# Altium schematic symbol library kmilo17pet-NSC_MiscPower.SchLib: 1552 symbols (part 2 of 43)
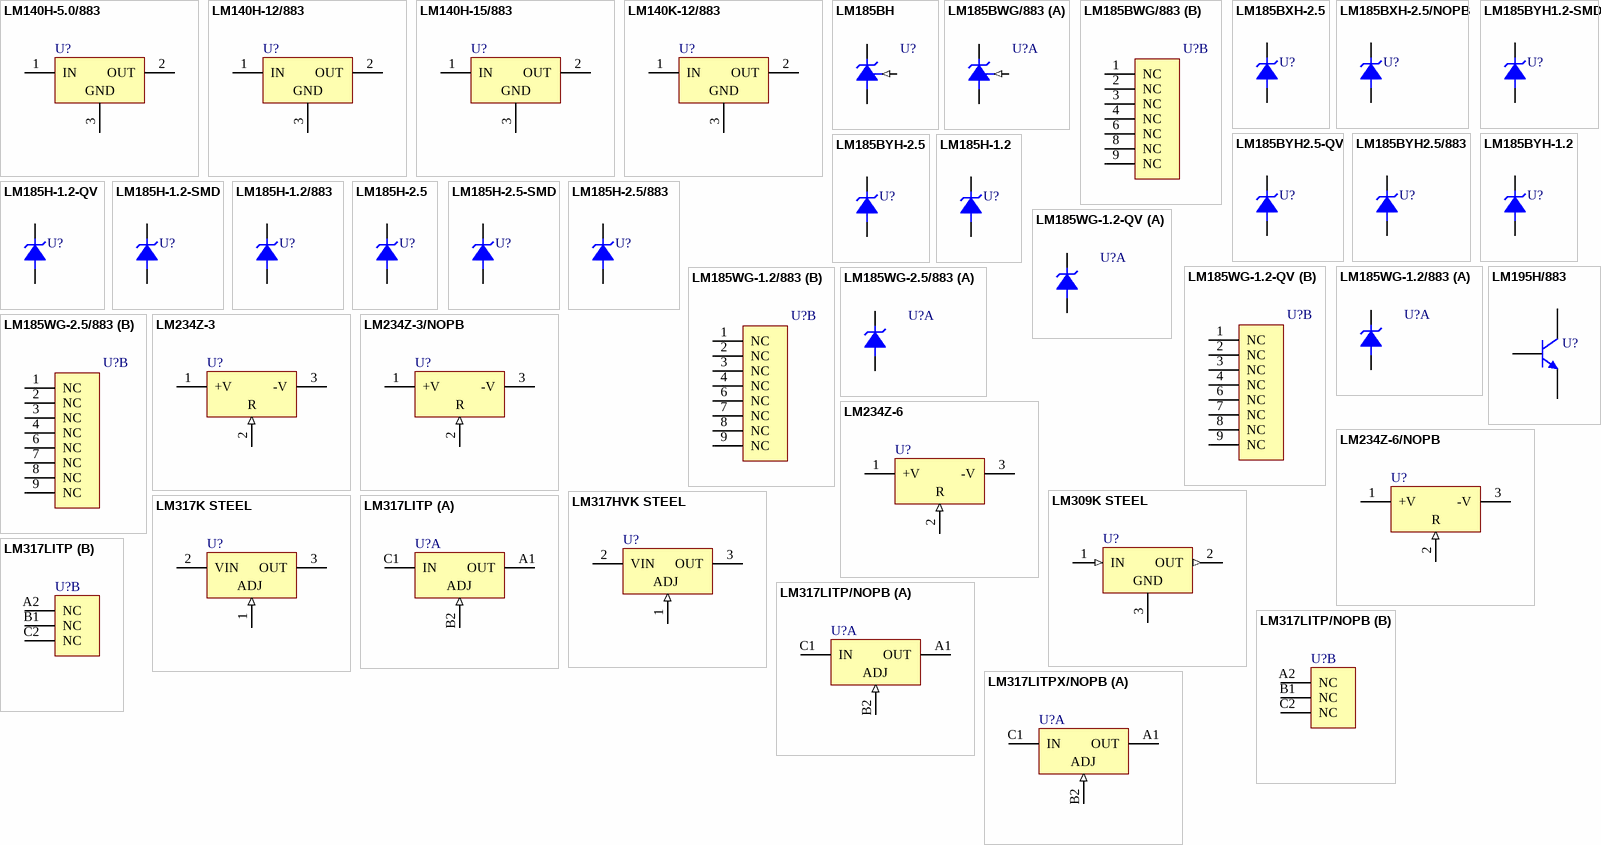
[diagram p58: symbols LM140H-5.0/883 to LM317LITPX/NOPB]

## LM185BYH-2.5
designator U?
Micropower Voltage Reference Diode, 2-pin TO-46; PartNumber: LM185BYH-2.5; Manufacturer: National Semiconductor; PackageTopMarking: NSXYTTE# LM185BYH2.5; PowerWise: N; CompType: MiscPower; High-Reliability: Y; DatasheetVersion: Jan-2008; PackageVersion: revF, Apr-2002; PackageReference: H02A; PackageDescription: Metal Can, TO-46, 2 Lead, .100in Dia, P.C.; RoHS: N; PinCount: 2; Code_JEDEC: TO-46; ComponentLink1Description: Manufacturer URL; ComponentLink1URL: http://www.national.com/; ComponentLink2Description: LM185-2.5 Datasheet; ComponentLink2URL: http://www.national.com/ds/LM/LM185-2.5.pdf; ComponentLink3Description: LM185-2.5 Web Page; ComponentLink3URL: http://www.national.com/pf/LM/LM185-2.5.html; ComponentLink4Description: H02A Package Page; ComponentLink4URL: http://www.national.com/packaging/folders/h02a.html
footprint H02A (Can; 2 Leads; Pin Circle Dia. 2.54 mm; Lead Dia. 0.48 mm (max))
pins: 1 V+ (power), 2 V- (power)

## LM185H-1.2
designator U?
Micropower Voltage Reference Diode, 2-pin TO-46; PartNumber: LM185H-1.2; Manufacturer: National Semiconductor; PackageTopMarking: NSXYTTE# LM185H1.2; PowerWise: N; CompType: MiscPower; High-Reliability: Y; DatasheetVersion: Jan-2008; PackageVersion: revF, Apr-2002; PackageReference: H02A; PackageDescription: Metal Can, TO-46, 2 Lead, .100in Dia, P.C.; RoHS: N; PinCount: 2; Code_JEDEC: TO-46; ComponentLink1Description: Manufacturer URL; ComponentLink1URL: http://www.national.com/; ComponentLink2Description: LM185-1.2 Datasheet; ComponentLink2URL: http://www.national.com/ds/LM/LM185-1.2.pdf; ComponentLink3Description: LM185-1.2 Web Page; ComponentLink3URL: http://www.national.com/pf/LM/LM185-1.2.html; ComponentLink4Description: H02A Package Page; ComponentLink4URL: http://www.national.com/packaging/folders/h02a.html
footprint H02A (Can; 2 Leads; Pin Circle Dia. 2.54 mm; Lead Dia. 0.48 mm (max))
pins: 1 V+ (power), 2 V- (power)

## LM185H-1.2-QV
designator U?
Micropower Voltage Reference Diode, 2-pin TO-46; PartNumber: LM185H-1.2-QV; Manufacturer: National Semiconductor; PackageTopMarking: NSZSSXXYYA 5962-8759401VXA Q; PowerWise: N; CompType: MiscPower; High-Reliability: Y; DatasheetVersion: Jan-2008; PackageVersion: revF, Apr-2002; PackageReference: H02A; PackageDescription: Metal Can, TO-46, 2 Lead, .100in Dia, P.C.; RoHS: N; PinCount: 2; Code_JEDEC: TO-46; ComponentLink1Description: Manufacturer URL; ComponentLink1URL: http://www.national.com/; ComponentLink2Description: LM185-1.2QML Datasheet; ComponentLink2URL: http://www.national.com/ds/LM/LM185-1.2QML.pdf; ComponentLink3Description: LM185-1.2QML Web Page; ComponentLink3URL: http://www.national.com/pf/LM/LM185-1.2QML.html; ComponentLink4Description: H02A Package Page; ComponentLink4URL: http://www.national.com/packaging/folders/h02a.html
footprint H02A (Can; 2 Leads; Pin Circle Dia. 2.54 mm; Lead Dia. 0.48 mm (max))
pins: 1 V+ (power), 2 V- (power)

## LM185H-1.2-SMD
designator U?
Micropower Voltage Reference Diode, 2-pin TO-46; PartNumber: LM185H-1.2-SMD; Manufacturer: National Semiconductor; PackageTopMarking: NSZSSXXYYA 8759401XA Q; PowerWise: N; CompType: MiscPower; High-Reliability: Y; DatasheetVersion: Jan-2008; PackageVersion: revF, Apr-2002; PackageReference: H02A; PackageDescription: Metal Can, TO-46, 2 Lead, .100in Dia, P.C.; RoHS: N; PinCount: 2; Code_JEDEC: TO-46; ComponentLink1Description: Manufacturer URL; ComponentLink1URL: http://www.national.com/; ComponentLink2Description: LM185-1.2QML Datasheet; ComponentLink2URL: http://www.national.com/ds/LM/LM185-1.2QML.pdf; ComponentLink3Description: LM185-1.2QML Web Page; ComponentLink3URL: http://www.national.com/pf/LM/LM185-1.2QML.html; ComponentLink4Description: H02A Package Page; ComponentLink4URL: http://www.national.com/packaging/folders/h02a.html
footprint H02A (Can; 2 Leads; Pin Circle Dia. 2.54 mm; Lead Dia. 0.48 mm (max))
pins: 1 V+ (power), 2 V- (power)

## LM185H-1.2/883
designator U?
Micropower Voltage Reference Diode, 2-pin TO-46; PartNumber: LM185H-1.2/883; Manufacturer: National Semiconductor; PackageTopMarking: NSZSSXXYYA LM185H-1.2 Q; PowerWise: N; CompType: MiscPower; High-Reliability: Y; DatasheetVersion: Jan-2008; PackageVersion: revF, Apr-2002; PackageReference: H02A; PackageDescription: Metal Can, TO-46, 2 Lead, .100in Dia, P.C.; RoHS: N; PinCount: 2; Code_JEDEC: TO-46; ComponentLink1Description: Manufacturer URL; ComponentLink1URL: http://www.national.com/; ComponentLink2Description: LM185-1.2 Datasheet; ComponentLink2URL: http://www.national.com/ds/LM/LM185-1.2.pdf; ComponentLink3Description: LM185-1.2 Web Page; ComponentLink3URL: http://www.national.com/pf/LM/LM185-1.2.html; ComponentLink4Description: H02A Package Page; ComponentLink4URL: http://www.national.com/packaging/folders/h02a.html
footprint H02A (Can; 2 Leads; Pin Circle Dia. 2.54 mm; Lead Dia. 0.48 mm (max))
pins: 1 V+ (power), 2 V- (power)

## LM185H-2.5
designator U?
Adjustable Micropower Voltage Reference, 2-pin TO-46; PartNumber: LM185H-2.5; Manufacturer: National Semiconductor; PackageTopMarking: NSXYTTE# LM185H2.5; PowerWise: N; CompType: MiscPower; High-Reliability: Y; DatasheetVersion: Jan-2008; PackageVersion: revF, Apr-2002; PackageReference: H02A; PackageDescription: Metal Can, TO-46, 2 Lead, .100in Dia, P.C.; RoHS: N; PinCount: 2; Code_JEDEC: TO-46; ComponentLink1Description: Manufacturer URL; ComponentLink1URL: http://www.national.com/; ComponentLink2Description: LM185-ADJ Datasheet; ComponentLink2URL: http://www.national.com/ds/LM/LM185-ADJ.pdf; ComponentLink3Description: LM185-ADJ Web Page; ComponentLink3URL: http://www.national.com/pf/LM/LM185-ADJ.html; ComponentLink4Description: H02A Package Page; ComponentLink4URL: http://www.national.com/packaging/folders/h02a.html
footprint H02A (Can; 2 Leads; Pin Circle Dia. 2.54 mm; Lead Dia. 0.48 mm (max))
pins: 1 V+ (power), 2 V- (power)

## LM185H-2.5-SMD
designator U?
Micropower Voltage Reference Diode, 2-pin TO-46; PartNumber: LM185H-2.5-SMD; Manufacturer: National Semiconductor; PackageTopMarking: NSZSSXXYYA 8759402XA Q; PowerWise: N; CompType: MiscPower; High-Reliability: Y; DatasheetVersion: Jan-2008; PackageVersion: revF, Apr-2002; PackageReference: H02A; PackageDescription: Metal Can, TO-46, 2 Lead, .100in Dia, P.C.; RoHS: N; PinCount: 2; Code_JEDEC: TO-46; ComponentLink1Description: Manufacturer URL; ComponentLink1URL: http://www.national.com/; ComponentLink2Description: LM185-2.5QML Datasheet; ComponentLink2URL: http://www.national.com/ds/LM/LM185-2.5QML.pdf; ComponentLink3Description: LM185-2.5QML Web Page; ComponentLink3URL: http://www.national.com/pf/LM/LM185-2.5QML.html; ComponentLink4Description: H02A Package Page; ComponentLink4URL: http://www.national.com/packaging/folders/h02a.html
footprint H02A (Can; 2 Leads; Pin Circle Dia. 2.54 mm; Lead Dia. 0.48 mm (max))
pins: 1 V+ (power), 2 V- (power)

## LM185H-2.5/883
designator U?
Micropower Voltage Reference Diode, 2-pin TO-46; PartNumber: LM185H-2.5/883; Manufacturer: National Semiconductor; PackageTopMarking: NSZSSXXYYA LM185H-2.5 Q; PowerWise: N; CompType: MiscPower; High-Reliability: Y; DatasheetVersion: Jan-2008; PackageVersion: revF, Apr-2002; PackageReference: H02A; PackageDescription: Metal Can, TO-46, 2 Lead, .100in Dia, P.C.; RoHS: N; PinCount: 2; Code_JEDEC: TO-46; ComponentLink1Description: Manufacturer URL; ComponentLink1URL: http://www.national.com/; ComponentLink2Description: LM185-2.5QML Datasheet; ComponentLink2URL: http://www.national.com/ds/LM/LM185-2.5QML.pdf; ComponentLink3Description: LM185-2.5QML Web Page; ComponentLink3URL: http://www.national.com/pf/LM/LM185-2.5QML.html; ComponentLink4Description: H02A Package Page; ComponentLink4URL: http://www.national.com/packaging/folders/h02a.html
footprint H02A (Can; 2 Leads; Pin Circle Dia. 2.54 mm; Lead Dia. 0.48 mm (max))
pins: 1 V+ (power), 2 V- (power)

## LM185WG-1.2-QV
designator U?
Micropower Voltage Reference Diode, 10-pin CerPACK; PartNumber: LM185WG-1.2-QV; Manufacturer: National Semiconductor; PackageTopMarking: NS*ZSSXXYYA*8759401VY*A LM185W*G-1.2-QV; PowerWise: N; CompType: MiscPower; High-Reliability: Y; DatasheetVersion: Oct-2005; PackageVersion: revF, Oct-2008; PackageReference: WG10A; PackageDescription: Cerpack, .270 x .241 x .070in, 10 Lead, .050in Pitch, Gull Wing; RoHS: N; PinCount: 10; ComponentLink1Description: Manufacturer URL; ComponentLink1URL: http://www.national.com/; ComponentLink2Description: LM185-1.2QML Datasheet; ComponentLink2URL: http://www.national.com/ds/LM/LM185-1.2QML.pdf; ComponentLink3Description: LM185-1.2QML Web Page; ComponentLink3URL: http://www.national.com/pf/LM/LM185-1.2QML.html; ComponentLink4Description: WG10A Package Page; ComponentLink4URL: http://www.national.com/packaging/folders/wg10a.html
footprint WG10A_N (CERPACK, 10-Leads, Body 6.9x6.3mm, Pitch 1.27mm, IPC Medium Density)
footprint WG10A_L (CERPACK, 10-Leads, Body 6.9x6.3mm, Pitch 1.27mm, IPC High Density)
footprint WG10A_M (CERPACK, 10-Leads, Body 6.9x6.3mm, Pitch 1.27mm, IPC Low Density)
part A pins: 5 -V "Ground", 10 +V "+VREF"
part B pins: 1 NC, 2 NC, 3 NC, 4 NC, 6 NC, 7 NC, 8 NC, 9 NC

## LM185WG-1.2/883
designator U?
Micropower Voltage Reference Diode, 10-pin CerPACK; PartNumber: LM185WG-1.2/883; Manufacturer: National Semiconductor; PackageTopMarking: NS*ZSSXXYYA*8759401YA*LM185WG-*1.2/883 Q; PowerWise: N; CompType: MiscPower; High-Reliability: Y; DatasheetVersion: Oct-2005; PackageVersion: revF, Oct-2008; PackageReference: WG10A; PackageDescription: Cerpack, .270 x .241 x .070in, 10 Lead, .050in Pitch, Gull Wing; RoHS: N; PinCount: 10; ComponentLink1Description: Manufacturer URL; ComponentLink1URL: http://www.national.com/; ComponentLink2Description: LM185-1.2QML Datasheet; ComponentLink2URL: http://www.national.com/ds/LM/LM185-1.2QML.pdf; ComponentLink3Description: LM185-1.2QML Web Page; ComponentLink3URL: http://www.national.com/pf/LM/LM185-1.2QML.html; ComponentLink4Description: WG10A Package Page; ComponentLink4URL: http://www.national.com/packaging/folders/wg10a.html
footprint WG10A_N (CERPACK, 10-Leads, Body 6.9x6.3mm, Pitch 1.27mm, IPC Medium Density)
footprint WG10A_L (CERPACK, 10-Leads, Body 6.9x6.3mm, Pitch 1.27mm, IPC High Density)
footprint WG10A_M (CERPACK, 10-Leads, Body 6.9x6.3mm, Pitch 1.27mm, IPC Low Density)
part A pins: 5 -V "Ground", 10 +V "+VREF"
part B pins: 1 NC, 2 NC, 3 NC, 4 NC, 6 NC, 7 NC, 8 NC, 9 NC

## LM185WG-2.5/883
designator U?
Micropower Voltage Reference Diode, 10-pin CerPACK; PartNumber: LM185WG-2.5/883; Manufacturer: National Semiconductor; PackageTopMarking: NS*ZSSXXYYA*8759402YA*LM185WG-*2.5/883 Q; PowerWise: N; CompType: MiscPower; High-Reliability: Y; DatasheetVersion: Nov-2005; PackageVersion: revF, Oct-2008; PackageReference: WG10A; PackageDescription: Cerpack, .270 x .241 x .070in, 10 Lead, .050in Pitch, Gull Wing; RoHS: N; PinCount: 10; ComponentLink1Description: Manufacturer URL; ComponentLink1URL: http://www.national.com/; ComponentLink2Description: LM185-2.5QML Datasheet; ComponentLink2URL: http://www.national.com/ds/LM/LM185-2.5QML.pdf; ComponentLink3Description: LM185-2.5QML Web Page; ComponentLink3URL: http://www.national.com/pf/LM/LM185-2.5QML.html; ComponentLink4Description: WG10A Package Page; ComponentLink4URL: http://www.national.com/packaging/folders/wg10a.html
footprint WG10A_N (CERPACK, 10-Leads, Body 6.9x6.3mm, Pitch 1.27mm, IPC Medium Density)
footprint WG10A_L (CERPACK, 10-Leads, Body 6.9x6.3mm, Pitch 1.27mm, IPC High Density)
footprint WG10A_M (CERPACK, 10-Leads, Body 6.9x6.3mm, Pitch 1.27mm, IPC Low Density)
part A pins: 5 -V "Ground", 10 +V "+VREF"
part B pins: 1 NC, 2 NC, 3 NC, 4 NC, 6 NC, 7 NC, 8 NC, 9 NC

## LM195H/883
designator U?
Ultra Reliable Power Transistor, 3-pin TO-39; PartNumber: LM195H/883; Manufacturer: National Semiconductor; PackageTopMarking: NS ZSSXXYYA LM195H/883 Q*5962-8777801XA; PowerWise: N; CompType: MiscPower; High-Reliability: Y; DatasheetVersion: Jul-2000; PackageVersion: revD, Feb-1995; PackageReference: H03A; PackageDescription: Metal Can, TO-39, 3 Lead, .200in Dia, P.C.; RoHS: N; PinCount: 3; Code_JEDEC: TO-39; ComponentLink1Description: Manufacturer URL; ComponentLink1URL: http://www.national.com/; ComponentLink2Description: LM195 Datasheet; ComponentLink2URL: http://www.national.com/ds/LM/LM195QML.pdf; ComponentLink3Description: LM195 Web Page; ComponentLink3URL: http://www.national.com/pf/LM/LM195.html; ComponentLink4Description: H03A Package Page; ComponentLink4URL: http://www.national.com/packaging/folders/h03a.html
footprint H03A (Can; 3 Leads; Pin Circle Dia. 5.08 mm; Lead Dia. 0.48 mm (max))
pins: 1 E, 2 B, 3 C

## LM234Z-3
designator U?
3-Terminal Adjustable Current Source, 3-pin TO-92; PartNumber: LM234Z-3; Manufacturer: National Semiconductor; PackageTopMarking: NSXYTT*LM234*Z-3; PowerWise: N; CompType: MiscPower; High-Reliability: Y; DatasheetVersion: Mar-2005; PackageVersion: revG, Sep-2000; PackageReference: Z03A; PackageDescription: TO-92, Molded, 3 Lead; RoHS: N; PinCount: 3; Code_JEDEC: TO-226-AA; ComponentLink1Description: Manufacturer URL; ComponentLink1URL: http://www.national.com/; ComponentLink2Description: LM234 Datasheet; ComponentLink2URL: http://www.national.com/ds/LM/LM234.pdf; ComponentLink3Description: LM234 Web Page; ComponentLink3URL: http://www.national.com/pf/LM/LM234.html; ComponentLink4Description: Z03A Package Page; ComponentLink4URL: http://www.national.com/packaging/folders/z03a.html
footprint Z03A (TO, Flat Index; 3 In-Line, Axial Leads; Body Dia. 5mm; Leads 0.55 x 0.50 mm (max))
pins: 1 +V, 2 R (in), 3 -V

## LM234Z-3/NOPB
designator U?
3-Terminal Adjustable Current Source, 3-pin TO-92, Pb-Free; PartNumber: LM234Z-3/NOPB; Manufacturer: National Semiconductor; PackageTopMarking: NSXYTT*LM234*Z-3; PowerWise: N; CompType: MiscPower; High-Reliability: Y; DatasheetVersion: Mar-2005; PackageVersion: revG, Sep-2000; PackageReference: Z03A; PackageDescription: TO-92, Molded, 3 Lead; RoHS: Y; PinCount: 3; Code_JEDEC: TO-226-AA; ComponentLink1Description: Manufacturer URL; ComponentLink1URL: http://www.national.com/; ComponentLink2Description: LM234 Datasheet; ComponentLink2URL: http://www.national.com/ds/LM/LM234.pdf; ComponentLink3Description: LM234 Web Page; ComponentLink3URL: http://www.national.com/pf/LM/LM234.html; ComponentLink4Description: Z03A Package Page; ComponentLink4URL: http://www.national.com/packaging/folders/z03a.html
footprint Z03A (TO, Flat Index; 3 In-Line, Axial Leads; Body Dia. 5mm; Leads 0.55 x 0.50 mm (max))
pins: 1 +V, 2 R (in), 3 -V

## LM234Z-6
designator U?
3-Terminal Adjustable Current Source, 3-pin TO-92; PartNumber: LM234Z-6; Manufacturer: National Semiconductor; PackageTopMarking: NSXYTT*LM234*Z-6; PowerWise: N; CompType: MiscPower; High-Reliability: Y; DatasheetVersion: Mar-2005; PackageVersion: revG, Sep-2000; PackageReference: Z03A; PackageDescription: TO-92, Molded, 3 Lead; RoHS: N; PinCount: 3; Code_JEDEC: TO-226-AA; ComponentLink1Description: Manufacturer URL; ComponentLink1URL: http://www.national.com/; ComponentLink2Description: LM234 Datasheet; ComponentLink2URL: http://www.national.com/ds/LM/LM234.pdf; ComponentLink3Description: LM234 Web Page; ComponentLink3URL: http://www.national.com/pf/LM/LM234.html; ComponentLink4Description: Z03A Package Page; ComponentLink4URL: http://www.national.com/packaging/folders/z03a.html
footprint Z03A (TO, Flat Index; 3 In-Line, Axial Leads; Body Dia. 5mm; Leads 0.55 x 0.50 mm (max))
pins: 1 +V, 2 R (in), 3 -V

## LM234Z-6/NOPB
designator U?
3-Terminal Adjustable Current Source, 3-pin TO-92, Pb-Free; PartNumber: LM234Z-6/NOPB; Manufacturer: National Semiconductor; PackageTopMarking: NSXYTT*LM234*Z-6; PowerWise: N; CompType: MiscPower; High-Reliability: Y; DatasheetVersion: Mar-2005; PackageVersion: revG, Sep-2000; PackageReference: Z03A; PackageDescription: TO-92, Molded, 3 Lead; RoHS: Y; PinCount: 3; Code_JEDEC: TO-226-AA; ComponentLink1Description: Manufacturer URL; ComponentLink1URL: http://www.national.com/; ComponentLink2Description: LM234 Datasheet; ComponentLink2URL: http://www.national.com/ds/LM/LM234.pdf; ComponentLink3Description: LM234 Web Page; ComponentLink3URL: http://www.national.com/pf/LM/LM234.html; ComponentLink4Description: Z03A Package Page; ComponentLink4URL: http://www.national.com/packaging/folders/z03a.html
footprint Z03A (TO, Flat Index; 3 In-Line, Axial Leads; Body Dia. 5mm; Leads 0.55 x 0.50 mm (max))
pins: 1 +V, 2 R (in), 3 -V

## LM309K STEEL
designator U?
5-Volt Regulator, 3-pin TO-3; PartNumber: LM309K STEEL; Manufacturer: National Semiconductor; PackageTopMarking: NS*ZXYTTE#*LM309K*STEELP+; PowerWise: N; CompType: MiscPower; High-Reliability: Y; DatasheetVersion: Apr-1998; PackageVersion: revG, Oct-1991; PackageReference: K02A; PackageDescription: Metal Can (KA) TO-3, 2 Lead; RoHS: N; PinCount: 2; ComponentLink1Description: Manufacturer URL; ComponentLink1URL: http://www.national.com/; ComponentLink2Description: LM309 Datasheet; ComponentLink2URL: http://www.national.com/ds/LM/LM309.pdf; ComponentLink3Description: LM309 Web Page; ComponentLink3URL: http://www.national.com/pf/LM/LM309.html; ComponentLink4Description: K02A Package Page; ComponentLink4URL: http://www.national.com/packaging/folders/k02a.html
footprint K02A (Oval Flange Mount with (2) Offset Leads; Pin Spacing 10.93 mm; Lead Dia. 1.09 mm (max))
pins: 1 IN (in), 2 OUT (out), 3 GND (power)

## LM317HVK STEEL
designator U?
3-Terminal Adjustable Regulator, 3-pin TO-3; PartNumber: LM317HVK STEEL; Manufacturer: National Semiconductor; PackageTopMarking: NS*ZXYTTE#*LM317HVK*STEELP+; PowerWise: N; CompType: MiscPower; High-Reliability: Y; DatasheetVersion: Apr-2000; PackageVersion: revB, Oct-1991; PackageReference: KC02B; PackageDescription: Metal CAN (KC), TO-3, 2 Lead; RoHS: N; PinCount: 2; Code_JEDEC: TO-3; ComponentLink1Description: Manufacturer URL; ComponentLink1URL: http://www.national.com/; ComponentLink2Description: LM317HV Datasheet; ComponentLink2URL: http://www.national.com/ds/LM/LM317HV.pdf; ComponentLink3Description: LM317HV Web Page; ComponentLink3URL: http://www.national.com/pf/LM/LM317HV.html; ComponentLink4Description: KC02B Package Page; ComponentLink4URL: http://www.national.com/packaging/folders/kc02b.html
footprint KC02B (Oval Flange Mount with (2) Offset Leads; Pin Spacing 10.92 mm; Lead Dia. 1.09 mm (max))
pins: 1 ADJ (in), 2 VIN (power), 3 OUT (power)

## LM317K STEEL
designator U?
3-Terminal Adjustable Regulator, 3-pin TO-3; PartNumber: LM317K STEEL; Manufacturer: National Semiconductor; PackageTopMarking: NS*ZXYTTE#*LM317K*STEELP+; PowerWise: N; CompType: MiscPower; High-Reliability: Y; DatasheetVersion: Mar-2010; PackageVersion: revG, Oct-1991; PackageReference: K02A; PackageDescription: Metal Can (KA) TO-3, 2 Lead; RoHS: N; PinCount: 2; ComponentLink1Description: Manufacturer URL; ComponentLink1URL: http://www.national.com/; ComponentLink2Description: LM317 Datasheet; ComponentLink2URL: http://www.national.com/ds/LM/LM317.pdf; ComponentLink3Description: LM317 Web Page; ComponentLink3URL: http://www.national.com/pf/LM/LM317.html; ComponentLink4Description: K02A Package Page; ComponentLink4URL: http://www.national.com/packaging/folders/k02a.html
footprint K02A (Oval Flange Mount with (2) Offset Leads; Pin Spacing 10.93 mm; Lead Dia. 1.09 mm (max))
pins: 1 ADJ (in), 2 VIN (power), 3 OUT (power)

## LM317LITP
designator U?
3-Terminal Adjustable Regulator, 6-pin Micro SMD; PartNumber: LM317LITP; Manufacturer: National Semiconductor; PackageTopMarking: XVP*I 1; PowerWise: N; CompType: MiscPower; High-Reliability: Y; DatasheetVersion: Apr-2008; PackageVersion: revA, Mar-2002; PackageReference: TPA06HPA; PackageDescription: Thin Micro SMD, 6 Bump, 0.5mm Pitch; RoHS: Y; PinCount: 6; Code_JEDEC: MO-211-BB; ComponentLink1Description: Manufacturer URL; ComponentLink1URL: http://www.national.com/; ComponentLink2Description: LM317L Datasheet; ComponentLink2URL: http://www.national.com/ds/LM/LM317L.pdf; ComponentLink3Description: LM317L Web Page; ComponentLink3URL: http://www.national.com/pf/LM/LM317L.html; ComponentLink4Description: TPA06HPA Package Page; ComponentLink4URL: http://www.national.com/packaging/folders/tpa06hpa.html
footprint TPA06HPA (Micro SMD, 6-Leads, Body 1.62x0.96mm, Pitch 0.5mm, NSC Recommended)
part A pins: A1 OUT (power), B2 ADJ (in), C1 IN (power)
part B pins: A2 NC, B1 NC, C2 NC

## LM317LITP/NOPB
designator U?
3-Terminal Adjustable Regulator, 6-pin Micro SMD, Pb-Free; PartNumber: LM317LITP/NOPB; Manufacturer: National Semiconductor; PackageTopMarking: XVP*I 1; PowerWise: N; CompType: MiscPower; High-Reliability: Y; DatasheetVersion: Apr-2008; PackageVersion: revA, Mar-2002; PackageReference: TPA06HPA; PackageDescription: Thin Micro SMD, 6 Bump, 0.5mm Pitch; RoHS: Y; PinCount: 6; Code_JEDEC: MO-211-BB; ComponentLink1Description: Manufacturer URL; ComponentLink1URL: http://www.national.com/; ComponentLink2Description: LM317L Datasheet; ComponentLink2URL: http://www.national.com/ds/LM/LM317L.pdf; ComponentLink3Description: LM317L Web Page; ComponentLink3URL: http://www.national.com/pf/LM/LM317L.html; ComponentLink4Description: TPA06HPA Package Page; ComponentLink4URL: http://www.national.com/packaging/folders/tpa06hpa.html
footprint TPA06HPA (Micro SMD, 6-Leads, Body 1.62x0.96mm, Pitch 0.5mm, NSC Recommended)
part A pins: A1 OUT (power), B2 ADJ (in), C1 IN (power)
part B pins: A2 NC, B1 NC, C2 NC

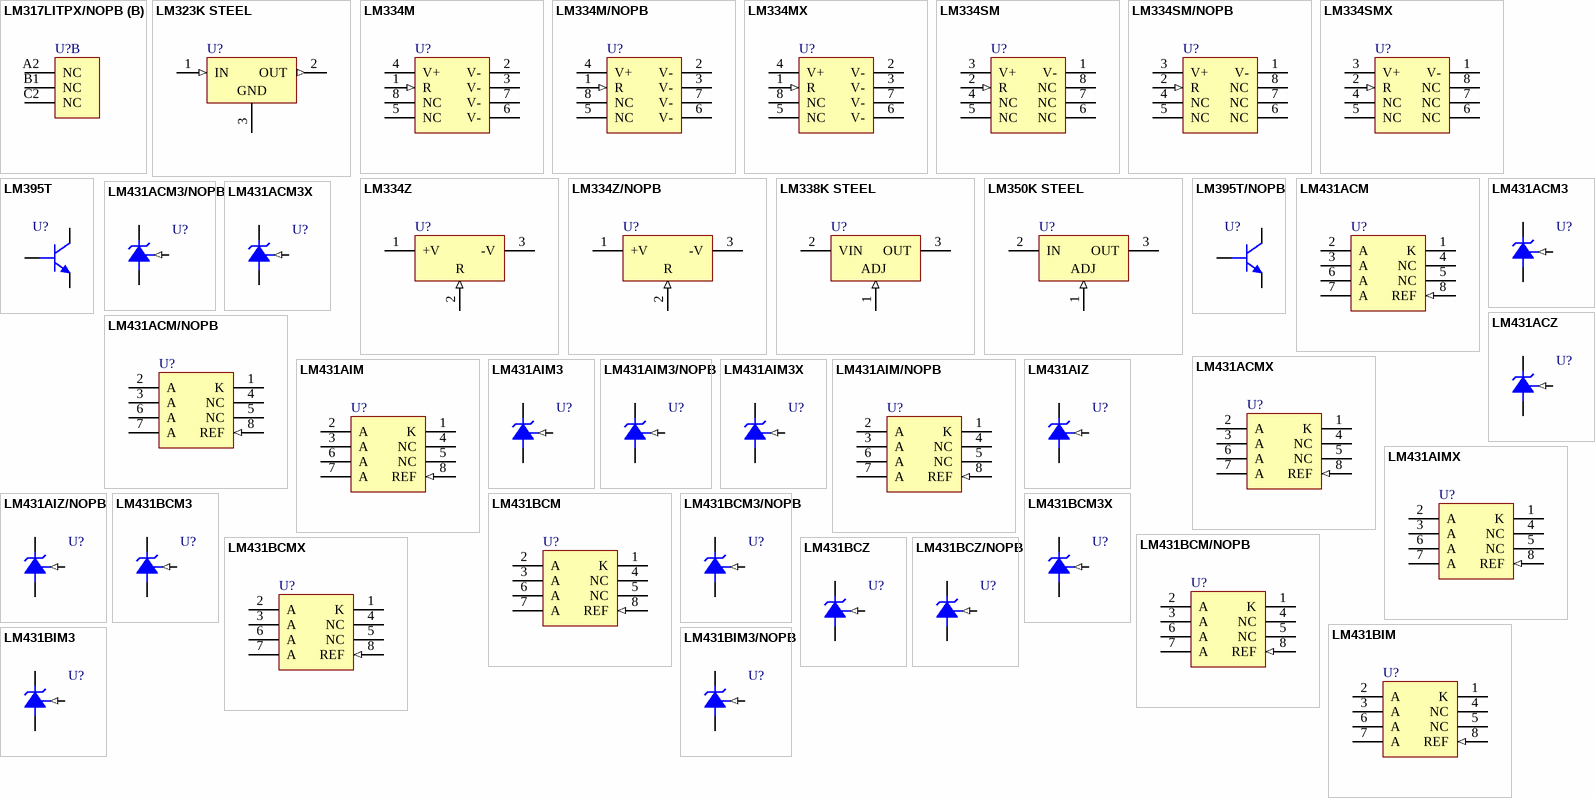
[diagram p2: symbols LM317LITPX/NOPB to LM431BIM3/NOPB]

## LM317LITPX/NOPB
designator U?
3-Terminal Adjustable Regulator, 6-pin Micro SMD, Pb-Free; PartNumber: LM317LITPX/NOPB; Manufacturer: National Semiconductor; PackageTopMarking: XVP*I 1; PowerWise: N; CompType: MiscPower; High-Reliability: Y; DatasheetVersion: Apr-2008; PackageVersion: revA, Mar-2002; PackageReference: TPA06HPA; PackageDescription: Thin Micro SMD, 6 Bump, 0.5mm Pitch; RoHS: Y; PinCount: 6; Code_JEDEC: MO-211-BB; ComponentLink1Description: Manufacturer URL; ComponentLink1URL: http://www.national.com/; ComponentLink2Description: LM317L Datasheet; ComponentLink2URL: http://www.national.com/ds/LM/LM317L.pdf; ComponentLink3Description: LM317L Web Page; ComponentLink3URL: http://www.national.com/pf/LM/LM317L.html; ComponentLink4Description: TPA06HPA Package Page; ComponentLink4URL: http://www.national.com/packaging/folders/tpa06hpa.html
footprint TPA06HPA (Micro SMD, 6-Leads, Body 1.62x0.96mm, Pitch 0.5mm, NSC Recommended)
part A pins: A1 OUT (power), B2 ADJ (in), C1 IN (power)
part B pins: A2 NC, B1 NC, C2 NC

## LM323K STEEL
designator U?
3-Amp, 5-Volt Positive Regulator, 3-pin TO-3; PartNumber: LM323K STEEL; Manufacturer: National Semiconductor; PackageTopMarking: NS*ZXYTTE#*LM323K*STEEL; PowerWise: N; CompType: MiscPower; High-Reliability: Y; DatasheetVersion: Apr-1998; PackageVersion: revG, Oct-1991; PackageReference: K02A; PackageDescription: Metal Can (KA) TO-3, 2 Lead; RoHS: N; PinCount: 2; ComponentLink1Description: Manufacturer URL; ComponentLink1URL: http://www.national.com/; ComponentLink2Description: LM323 Datasheet; ComponentLink2URL: http://www.national.com/ds/LM/LM323.pdf; ComponentLink3Description: LM323 Web Page; ComponentLink3URL: http://www.national.com/pf/LM/LM323.html; ComponentLink4Description: K02A Package Page; ComponentLink4URL: http://www.national.com/packaging/folders/k02a.html
footprint K02A (Oval Flange Mount with (2) Offset Leads; Pin Spacing 10.93 mm; Lead Dia. 1.09 mm (max))
pins: 1 IN (in), 2 OUT (out), 3 GND (power)

## LM334M
designator U?
3-Terminal Adjustable Current Source, 8-pin Narrow SOIC; PartNumber: LM334M; Manufacturer: National Semiconductor; PackageTopMarking: NSZXTT*LM334*M; PowerWise: N; CompType: MiscPower; High-Reliability: Y; DatasheetVersion: Mar-2005; PackageVersion: revM, May-2009; PackageReference: M08A; PackageDescription: SOIC Narrow, 4.9 x 3.9 x 1.45mm, 8 Lead, 1.27mm Pitch; RoHS: N; PinCount: 8; Code_JEDEC: MS-012-AA; Code_IPC: SOIC127P600-8; ComponentLink1Description: Manufacturer URL; ComponentLink1URL: http://www.national.com/; ComponentLink2Description: LM334 Datasheet; ComponentLink2URL: http://www.national.com/ds/LM/LM334.pdf; ComponentLink3Description: LM334 Web Page; ComponentLink3URL: http://www.national.com/pf/LM/LM334.html; ComponentLink4Description: M08A Package Page; ComponentLink4URL: http://www.national.com/packaging/folders/m08a.html
footprint M08A_N (SOIC, 8-Leads, Body 4.9x3.9mm, Pitch 1.27mm, IPC Medium Density)
footprint M08A_L (SOIC, 8-Leads, Body 4.9x3.9mm, Pitch 1.27mm, IPC High Density)
footprint M08A_M (SOIC, 8-Leads, Body 4.9x3.9mm, Pitch 1.27mm, IPC Low Density)
pins: 1 R (in), 2 V-, 3 V-, 4 V+, 5 NC, 6 V-, 7 V-, 8 NC

## LM334M/NOPB
designator U?
3-Terminal Adjustable Current Source, 8-pin Narrow SOIC, Pb-Free; PartNumber: LM334M/NOPB; Manufacturer: National Semiconductor; PackageTopMarking: NSZXTT*LM334*M; PowerWise: N; CompType: MiscPower; High-Reliability: Y; DatasheetVersion: Mar-2005; PackageVersion: revM, May-2009; PackageReference: M08A; PackageDescription: SOIC Narrow, 4.9 x 3.9 x 1.45mm, 8 Lead, 1.27mm Pitch; RoHS: Y; PinCount: 8; Code_JEDEC: MS-012-AA; Code_IPC: SOIC127P600-8; ComponentLink1Description: Manufacturer URL; ComponentLink1URL: http://www.national.com/; ComponentLink2Description: LM334 Datasheet; ComponentLink2URL: http://www.national.com/ds/LM/LM334.pdf; ComponentLink3Description: LM334 Web Page; ComponentLink3URL: http://www.national.com/pf/LM/LM334.html; ComponentLink4Description: M08A Package Page; ComponentLink4URL: http://www.national.com/packaging/folders/m08a.html
footprint M08A_N (SOIC, 8-Leads, Body 4.9x3.9mm, Pitch 1.27mm, IPC Medium Density)
footprint M08A_L (SOIC, 8-Leads, Body 4.9x3.9mm, Pitch 1.27mm, IPC High Density)
footprint M08A_M (SOIC, 8-Leads, Body 4.9x3.9mm, Pitch 1.27mm, IPC Low Density)
pins: 1 R (in), 2 V-, 3 V-, 4 V+, 5 NC, 6 V-, 7 V-, 8 NC

## LM334MX
designator U?
3-Terminal Adjustable Current Source, 8-pin Narrow SOIC; PartNumber: LM334MX; Manufacturer: National Semiconductor; PackageTopMarking: NSZXTT*LM334*M; PowerWise: N; CompType: MiscPower; High-Reliability: Y; DatasheetVersion: Mar-2005; PackageVersion: revM, May-2009; PackageReference: M08A; PackageDescription: SOIC Narrow, 4.9 x 3.9 x 1.45mm, 8 Lead, 1.27mm Pitch; RoHS: N; PinCount: 8; Code_JEDEC: MS-012-AA; Code_IPC: SOIC127P600-8; ComponentLink1Description: Manufacturer URL; ComponentLink1URL: http://www.national.com/; ComponentLink2Description: LM334 Datasheet; ComponentLink2URL: http://www.national.com/ds/LM/LM334.pdf; ComponentLink3Description: LM334 Web Page; ComponentLink3URL: http://www.national.com/pf/LM/LM334.html; ComponentLink4Description: M08A Package Page; ComponentLink4URL: http://www.national.com/packaging/folders/m08a.html
footprint M08A_N (SOIC, 8-Leads, Body 4.9x3.9mm, Pitch 1.27mm, IPC Medium Density)
footprint M08A_L (SOIC, 8-Leads, Body 4.9x3.9mm, Pitch 1.27mm, IPC High Density)
footprint M08A_M (SOIC, 8-Leads, Body 4.9x3.9mm, Pitch 1.27mm, IPC Low Density)
pins: 1 R (in), 2 V-, 3 V-, 4 V+, 5 NC, 6 V-, 7 V-, 8 NC

## LM334SM
designator U?
3-Terminal Adjustable Current Source, 8-pin Narrow SOIC; PartNumber: LM334SM; Manufacturer: National Semiconductor; PackageTopMarking: NSZXTT*LM334*SM; PowerWise: N; CompType: MiscPower; High-Reliability: Y; DatasheetVersion: Mar-2005; PackageVersion: revM, May-2009; PackageReference: M08A; PackageDescription: SOIC Narrow, 4.9 x 3.9 x 1.45mm, 8 Lead, 1.27mm Pitch; RoHS: N; PinCount: 8; Code_JEDEC: MS-012-AA; Code_IPC: SOIC127P600-8; ComponentLink1Description: Manufacturer URL; ComponentLink1URL: http://www.national.com/; ComponentLink2Description: LM334 Datasheet; ComponentLink2URL: http://www.national.com/ds/LM/LM334.pdf; ComponentLink3Description: LM334 Web Page; ComponentLink3URL: http://www.national.com/pf/LM/LM334.html; ComponentLink4Description: M08A Package Page; ComponentLink4URL: http://www.national.com/packaging/folders/m08a.html
footprint M08A_N (SOIC, 8-Leads, Body 4.9x3.9mm, Pitch 1.27mm, IPC Medium Density)
footprint M08A_L (SOIC, 8-Leads, Body 4.9x3.9mm, Pitch 1.27mm, IPC High Density)
footprint M08A_M (SOIC, 8-Leads, Body 4.9x3.9mm, Pitch 1.27mm, IPC Low Density)
pins: 1 V-, 2 R (in), 3 V+, 4 NC, 5 NC, 6 NC, 7 NC, 8 NC

## LM334SM/NOPB
designator U?
3-Terminal Adjustable Current Source, 8-pin Narrow SOIC, Pb-Free; PartNumber: LM334SM/NOPB; Manufacturer: National Semiconductor; PackageTopMarking: NSZXTT*LM334*SM; PowerWise: N; CompType: MiscPower; High-Reliability: Y; DatasheetVersion: Mar-2005; PackageVersion: revM, May-2009; PackageReference: M08A; PackageDescription: SOIC Narrow, 4.9 x 3.9 x 1.45mm, 8 Lead, 1.27mm Pitch; RoHS: Y; PinCount: 8; Code_JEDEC: MS-012-AA; Code_IPC: SOIC127P600-8; ComponentLink1Description: Manufacturer URL; ComponentLink1URL: http://www.national.com/; ComponentLink2Description: LM334 Datasheet; ComponentLink2URL: http://www.national.com/ds/LM/LM334.pdf; ComponentLink3Description: LM334 Web Page; ComponentLink3URL: http://www.national.com/pf/LM/LM334.html; ComponentLink4Description: M08A Package Page; ComponentLink4URL: http://www.national.com/packaging/folders/m08a.html
footprint M08A_N (SOIC, 8-Leads, Body 4.9x3.9mm, Pitch 1.27mm, IPC Medium Density)
footprint M08A_L (SOIC, 8-Leads, Body 4.9x3.9mm, Pitch 1.27mm, IPC High Density)
footprint M08A_M (SOIC, 8-Leads, Body 4.9x3.9mm, Pitch 1.27mm, IPC Low Density)
pins: 1 V-, 2 R (in), 3 V+, 4 NC, 5 NC, 6 NC, 7 NC, 8 NC

## LM334SMX
designator U?
3-Terminal Adjustable Current Source, 8-pin Narrow SOIC; PartNumber: LM334SMX; Manufacturer: National Semiconductor; PackageTopMarking: NSZXTT*LM334*SM; PowerWise: N; CompType: MiscPower; High-Reliability: Y; DatasheetVersion: Mar-2005; PackageVersion: revM, May-2009; PackageReference: M08A; PackageDescription: SOIC Narrow, 4.9 x 3.9 x 1.45mm, 8 Lead, 1.27mm Pitch; RoHS: N; PinCount: 8; Code_JEDEC: MS-012-AA; Code_IPC: SOIC127P600-8; ComponentLink1Description: Manufacturer URL; ComponentLink1URL: http://www.national.com/; ComponentLink2Description: LM334 Datasheet; ComponentLink2URL: http://www.national.com/ds/LM/LM334.pdf; ComponentLink3Description: LM334 Web Page; ComponentLink3URL: http://www.national.com/pf/LM/LM334.html; ComponentLink4Description: M08A Package Page; ComponentLink4URL: http://www.national.com/packaging/folders/m08a.html
footprint M08A_N (SOIC, 8-Leads, Body 4.9x3.9mm, Pitch 1.27mm, IPC Medium Density)
footprint M08A_L (SOIC, 8-Leads, Body 4.9x3.9mm, Pitch 1.27mm, IPC High Density)
footprint M08A_M (SOIC, 8-Leads, Body 4.9x3.9mm, Pitch 1.27mm, IPC Low Density)
pins: 1 V-, 2 R (in), 3 V+, 4 NC, 5 NC, 6 NC, 7 NC, 8 NC

## LM334Z
designator U?
3-Terminal Adjustable Current Source, 3-pin TO-92; PartNumber: LM334Z; Manufacturer: National Semiconductor; PackageTopMarking: NSXYTT*LM334*Z; PowerWise: N; CompType: MiscPower; High-Reliability: Y; DatasheetVersion: Mar-2005; PackageVersion: revG, Sep-2000; PackageReference: Z03A; PackageDescription: TO-92, Molded, 3 Lead; RoHS: N; PinCount: 3; Code_JEDEC: TO-226-AA; ComponentLink1Description: Manufacturer URL; ComponentLink1URL: http://www.national.com/; ComponentLink2Description: LM334 Datasheet; ComponentLink2URL: http://www.national.com/ds/LM/LM334.pdf; ComponentLink3Description: LM334 Web Page; ComponentLink3URL: http://www.national.com/pf/LM/LM334.html; ComponentLink4Description: Z03A Package Page; ComponentLink4URL: http://www.national.com/packaging/folders/z03a.html
footprint Z03A (TO, Flat Index; 3 In-Line, Axial Leads; Body Dia. 5mm; Leads 0.55 x 0.50 mm (max))
pins: 1 +V, 2 R (in), 3 -V

## LM334Z/NOPB
designator U?
3-Terminal Adjustable Current Source, 3-pin TO-92, Pb-Free; PartNumber: LM334Z/NOPB; Manufacturer: National Semiconductor; PackageTopMarking: NSXYTT*LM334*Z; PowerWise: N; CompType: MiscPower; High-Reliability: Y; DatasheetVersion: Mar-2005; PackageVersion: revG, Sep-2000; PackageReference: Z03A; PackageDescription: TO-92, Molded, 3 Lead; RoHS: Y; PinCount: 3; Code_JEDEC: TO-226-AA; ComponentLink1Description: Manufacturer URL; ComponentLink1URL: http://www.national.com/; ComponentLink2Description: LM334 Datasheet; ComponentLink2URL: http://www.national.com/ds/LM/LM334.pdf; ComponentLink3Description: LM334 Web Page; ComponentLink3URL: http://www.national.com/pf/LM/LM334.html; ComponentLink4Description: Z03A Package Page; ComponentLink4URL: http://www.national.com/packaging/folders/z03a.html
footprint Z03A (TO, Flat Index; 3 In-Line, Axial Leads; Body Dia. 5mm; Leads 0.55 x 0.50 mm (max))
pins: 1 +V, 2 R (in), 3 -V

## LM338K STEEL
designator U?
5 Amp Adjustable Regulator, 3-pin TO-3; PartNumber: LM338K STEEL; Manufacturer: National Semiconductor; PackageTopMarking: NS*ZXYTTE#*LM338K*STEELP+; PowerWise: N; CompType: MiscPower; High-Reliability: Y; DatasheetVersion: May-1998; PackageVersion: revG, Oct-1991; PackageReference: K02A; PackageDescription: Metal Can (KA) TO-3, 2 Lead; RoHS: N; PinCount: 2; ComponentLink1Description: Manufacturer URL; ComponentLink1URL: http://www.national.com/; ComponentLink2Description: LM338 Datasheet; ComponentLink2URL: http://www.national.com/ds/LM/LM338.pdf; ComponentLink3Description: LM338 Web Page; ComponentLink3URL: http://www.national.com/pf/LM/LM338.html; ComponentLink4Description: K02A Package Page; ComponentLink4URL: http://www.national.com/packaging/folders/k02a.html
footprint K02A (Oval Flange Mount with (2) Offset Leads; Pin Spacing 10.93 mm; Lead Dia. 1.09 mm (max))
pins: 1 ADJ (in), 2 VIN (power), 3 OUT (power)

## LM350K STEEL
designator U?
3-Amp Adjustable Regulator, 3-pin TO-3; PartNumber: LM350K STEEL; Manufacturer: National Semiconductor; PackageTopMarking: NS*ZXYTTE#*LM350K*STEELP+; PowerWise: N; CompType: MiscPower; High-Reliability: Y; DatasheetVersion: May-1998; PackageVersion: revG, Oct-1991; PackageReference: K02A; PackageDescription: Metal Can (KA) TO-3, 2 Lead; RoHS: N; PinCount: 2; ComponentLink1Description: Manufacturer URL; ComponentLink1URL: http://www.national.com/; ComponentLink2Description: LM350 Datasheet; ComponentLink2URL: http://www.national.com/ds/LM/LM350.pdf; ComponentLink3Description: LM350 Web Page; ComponentLink3URL: http://www.national.com/pf/LM/LM350.html; ComponentLink4Description: K02A Package Page; ComponentLink4URL: http://www.national.com/packaging/folders/k02a.html
footprint K02A (Oval Flange Mount with (2) Offset Leads; Pin Spacing 10.93 mm; Lead Dia. 1.09 mm (max))
pins: 1 ADJ (in), 2 IN (power), 3 OUT (power)

## LM395T
designator U?
Ultra Reliable Power Transistor, 3-pin TO-220; PartNumber: LM395T; Manufacturer: National Semiconductor; PackageTopMarking: NSUZXYTTE#*LM395T; PowerWise: N; CompType: MiscPower; High-Reliability: Y; DatasheetVersion: Jul-2000; PackageVersion: revL, Jan-1992; PackageReference: T03B; PackageDescription: TO-220, Molded, 3 Lead, Straight; RoHS: N; PinCount: 3; ComponentLink1Description: Manufacturer URL; ComponentLink1URL: http://www.national.com/; ComponentLink2Description: LM395 Datasheet; ComponentLink2URL: http://www.national.com/ds/LM/LM395.pdf; ComponentLink3Description: LM395 Web Page; ComponentLink3URL: http://www.national.com/pf/LM/LM395.html; ComponentLink4Description: T03B Package Page; ComponentLink4URL: http://www.national.com/packaging/folders/t03b.html
footprint T03B (TO, Thru-Hole, Vertical, Heatsink Mounted; 3 In-Line Leads; Pitch 2.54 mm)
pins: 1 B, 2 E, 3 C

## LM395T/NOPB
designator U?
Ultra Reliable Power Transistor, 3-pin TO-220, Pb-Free; PartNumber: LM395T/NOPB; Manufacturer: National Semiconductor; PackageTopMarking: NSUZXYTTE#*LM395T; PowerWise: N; CompType: MiscPower; High-Reliability: Y; DatasheetVersion: Jul-2000; PackageVersion: revL, Jan-1992; PackageReference: T03B; PackageDescription: TO-220, Molded, 3 Lead, Straight; RoHS: Y; PinCount: 3; ComponentLink1Description: Manufacturer URL; ComponentLink1URL: http://www.national.com/; ComponentLink2Description: LM395 Datasheet; ComponentLink2URL: http://www.national.com/ds/LM/LM395.pdf; ComponentLink3Description: LM395 Web Page; ComponentLink3URL: http://www.national.com/pf/LM/LM395.html; ComponentLink4Description: T03B Package Page; ComponentLink4URL: http://www.national.com/packaging/folders/t03b.html
footprint T03B (TO, Thru-Hole, Vertical, Heatsink Mounted; 3 In-Line Leads; Pitch 2.54 mm)
pins: 1 B, 2 E, 3 C

## LM431ACM
designator U?
Adjustable Precision Zener Shunt Regulator, 8-pin Narrow SOIC; PartNumber: LM431ACM; Manufacturer: National Semiconductor; PackageTopMarking: NSZXTT*LM431*ACM; PowerWise: N; CompType: MiscPower; High-Reliability: Y; DatasheetVersion: Mar-2005; PackageVersion: revM, May-2009; PackageReference: M08A; PackageDescription: SOIC Narrow, 4.9 x 3.9 x 1.45mm, 8 Lead, 1.27mm Pitch; RoHS: N; PinCount: 8; Code_JEDEC: MS-012-AA; Code_IPC: SOIC127P600-8; ComponentLink1Description: Manufacturer URL; ComponentLink1URL: http://www.national.com/; ComponentLink2Description: LM431 Datasheet; ComponentLink2URL: http://www.national.com/ds/LM/LM431.pdf; ComponentLink3Description: LM431 Web Page; ComponentLink3URL: http://www.national.com/pf/LM/LM431.html; ComponentLink4Description: M08A Package Page; ComponentLink4URL: http://www.national.com/packaging/folders/m08a.html
footprint M08A_N (SOIC, 8-Leads, Body 4.9x3.9mm, Pitch 1.27mm, IPC Medium Density)
footprint M08A_L (SOIC, 8-Leads, Body 4.9x3.9mm, Pitch 1.27mm, IPC High Density)
footprint M08A_M (SOIC, 8-Leads, Body 4.9x3.9mm, Pitch 1.27mm, IPC Low Density)
pins: 1 K, 2 A, 3 A, 4 NC, 5 NC, 6 A, 7 A, 8 REF (in)

## LM431ACM3
designator U?
Adjustable Precision Zener Shunt Regulator, 3-pin SOT-23; PartNumber: LM431ACM3; Manufacturer: National Semiconductor; PackageTopMarking: N1F*XTT; PowerWise: N; CompType: MiscPower; High-Reliability: Y; DatasheetVersion: Mar-2005; PackageVersion: revB, Mar-2003; PackageReference: MF03A; PackageDescription: Molded SOT-23, .115 x .051 x .037in Body, 3 Lead, .075 in Pitch; RoHS: N; PinCount: 3; ComponentLink1Description: Manufacturer URL; ComponentLink1URL: http://www.national.com/; ComponentLink2Description: LM431 Datasheet; ComponentLink2URL: http://www.national.com/ds/LM/LM431.pdf; ComponentLink3Description: LM431 Web Page; ComponentLink3URL: http://www.national.com/pf/LM/LM431.html; ComponentLink4Description: MF03A Package Page; ComponentLink4URL: http://www.national.com/packaging/folders/mf03a.html
footprint MF03A_N (SOT23, 3-Leads, Body 2.9x1.3mm, Pitch 0.95mm, Lead Span 2.4mm, IPC Medium Density)
footprint MF03A_L (SOT23, 3-Leads, Body 2.9x1.3mm, Pitch 0.95mm, Lead Span 2.4mm, IPC High Density)
footprint MF03A_M (SOT23, 3-Leads, Body 2.9x1.3mm, Pitch 0.95mm, Lead Span 2.4mm, IPC Low Density)
pins: 1 K, 2 REF (in), 3 A

## LM431ACM3/NOPB
designator U?
Adjustable Precision Zener Shunt Regulator, 3-pin SOT-23, Pb-Free; PartNumber: LM431ACM3/NOPB; Manufacturer: National Semiconductor; PackageTopMarking: N1F*XTT; PowerWise: N; CompType: MiscPower; High-Reliability: Y; DatasheetVersion: Mar-2005; PackageVersion: revB, Mar-2003; PackageReference: MF03A; PackageDescription: Molded SOT-23, .115 x .051 x .037in Body, 3 Lead, .075 in Pitch; RoHS: Y; PinCount: 3; ComponentLink1Description: Manufacturer URL; ComponentLink1URL: http://www.national.com/; ComponentLink2Description: LM431 Datasheet; ComponentLink2URL: http://www.national.com/ds/LM/LM431.pdf; ComponentLink3Description: LM431 Web Page; ComponentLink3URL: http://www.national.com/pf/LM/LM431.html; ComponentLink4Description: MF03A Package Page; ComponentLink4URL: http://www.national.com/packaging/folders/mf03a.html
footprint MF03A_N (SOT23, 3-Leads, Body 2.9x1.3mm, Pitch 0.95mm, Lead Span 2.4mm, IPC Medium Density)
footprint MF03A_L (SOT23, 3-Leads, Body 2.9x1.3mm, Pitch 0.95mm, Lead Span 2.4mm, IPC High Density)
footprint MF03A_M (SOT23, 3-Leads, Body 2.9x1.3mm, Pitch 0.95mm, Lead Span 2.4mm, IPC Low Density)
pins: 1 K, 2 REF (in), 3 A

## LM431ACM3X
designator U?
Adjustable Precision Zener Shunt Regulator, 3-pin SOT-23; PartNumber: LM431ACM3X; Manufacturer: National Semiconductor; PackageTopMarking: N1F*XTT; PowerWise: N; CompType: MiscPower; High-Reliability: Y; DatasheetVersion: Mar-2005; PackageVersion: revB, Mar-2003; PackageReference: MF03A; PackageDescription: Molded SOT-23, .115 x .051 x .037in Body, 3 Lead, .075 in Pitch; RoHS: N; PinCount: 3; ComponentLink1Description: Manufacturer URL; ComponentLink1URL: http://www.national.com/; ComponentLink2Description: LM431 Datasheet; ComponentLink2URL: http://www.national.com/ds/LM/LM431.pdf; ComponentLink3Description: LM431 Web Page; ComponentLink3URL: http://www.national.com/pf/LM/LM431.html; ComponentLink4Description: MF03A Package Page; ComponentLink4URL: http://www.national.com/packaging/folders/mf03a.html
footprint MF03A_N (SOT23, 3-Leads, Body 2.9x1.3mm, Pitch 0.95mm, Lead Span 2.4mm, IPC Medium Density)
footprint MF03A_L (SOT23, 3-Leads, Body 2.9x1.3mm, Pitch 0.95mm, Lead Span 2.4mm, IPC High Density)
footprint MF03A_M (SOT23, 3-Leads, Body 2.9x1.3mm, Pitch 0.95mm, Lead Span 2.4mm, IPC Low Density)
pins: 1 K, 2 REF (in), 3 A

## LM431ACM/NOPB
designator U?
Adjustable Precision Zener Shunt Regulator, 8-pin Narrow SOIC, Pb-Free; PartNumber: LM431ACM/NOPB; Manufacturer: National Semiconductor; PackageTopMarking: NSZXTT*LM431*ACM; PowerWise: N; CompType: MiscPower; High-Reliability: Y; DatasheetVersion: Mar-2005; PackageVersion: revM, May-2009; PackageReference: M08A; PackageDescription: SOIC Narrow, 4.9 x 3.9 x 1.45mm, 8 Lead, 1.27mm Pitch; RoHS: Y; PinCount: 8; Code_JEDEC: MS-012-AA; Code_IPC: SOIC127P600-8; ComponentLink1Description: Manufacturer URL; ComponentLink1URL: http://www.national.com/; ComponentLink2Description: LM431 Datasheet; ComponentLink2URL: http://www.national.com/ds/LM/LM431.pdf; ComponentLink3Description: LM431 Web Page; ComponentLink3URL: http://www.national.com/pf/LM/LM431.html; ComponentLink4Description: M08A Package Page; ComponentLink4URL: http://www.national.com/packaging/folders/m08a.html
footprint M08A_N (SOIC, 8-Leads, Body 4.9x3.9mm, Pitch 1.27mm, IPC Medium Density)
footprint M08A_L (SOIC, 8-Leads, Body 4.9x3.9mm, Pitch 1.27mm, IPC High Density)
footprint M08A_M (SOIC, 8-Leads, Body 4.9x3.9mm, Pitch 1.27mm, IPC Low Density)
pins: 1 K, 2 A, 3 A, 4 NC, 5 NC, 6 A, 7 A, 8 REF (in)

## LM431ACMX
designator U?
Adjustable Precision Zener Shunt Regulator, 8-pin Narrow SOIC; PartNumber: LM431ACMX; Manufacturer: National Semiconductor; PackageTopMarking: NSZXTT*LM431*ACM; PowerWise: N; CompType: MiscPower; High-Reliability: Y; DatasheetVersion: Mar-2005; PackageVersion: revM, May-2009; PackageReference: M08A; PackageDescription: SOIC Narrow, 4.9 x 3.9 x 1.45mm, 8 Lead, 1.27mm Pitch; RoHS: N; PinCount: 8; Code_JEDEC: MS-012-AA; Code_IPC: SOIC127P600-8; ComponentLink1Description: Manufacturer URL; ComponentLink1URL: http://www.national.com/; ComponentLink2Description: LM431 Datasheet; ComponentLink2URL: http://www.national.com/ds/LM/LM431.pdf; ComponentLink3Description: LM431 Web Page; ComponentLink3URL: http://www.national.com/pf/LM/LM431.html; ComponentLink4Description: M08A Package Page; ComponentLink4URL: http://www.national.com/packaging/folders/m08a.html
footprint M08A_N (SOIC, 8-Leads, Body 4.9x3.9mm, Pitch 1.27mm, IPC Medium Density)
footprint M08A_L (SOIC, 8-Leads, Body 4.9x3.9mm, Pitch 1.27mm, IPC High Density)
footprint M08A_M (SOIC, 8-Leads, Body 4.9x3.9mm, Pitch 1.27mm, IPC Low Density)
pins: 1 K, 2 A, 3 A, 4 NC, 5 NC, 6 A, 7 A, 8 REF (in)

## LM431ACZ
designator U?
Adjustable Precision Zener Shunt Regulator, 3-pin TO-92; PartNumber: LM431ACZ; Manufacturer: National Semiconductor; PackageTopMarking: NSXYTT*LM431*ACZ; PowerWise: N; CompType: MiscPower; High-Reliability: Y; DatasheetVersion: Mar-2005; PackageVersion: revG, Sep-2000; PackageReference: Z03A; PackageDescription: TO-92, Molded, 3 Lead; RoHS: N; PinCount: 3; Code_JEDEC: TO-226-AA; ComponentLink1Description: Manufacturer URL; ComponentLink1URL: http://www.national.com/; ComponentLink2Description: LM431 Datasheet; ComponentLink2URL: http://www.national.com/ds/LM/LM431.pdf; ComponentLink3Description: LM431 Web Page; ComponentLink3URL: http://www.national.com/pf/LM/LM431.html; ComponentLink4Description: Z03A Package Page; ComponentLink4URL: http://www.national.com/packaging/folders/z03a.html
footprint Z03A (TO, Flat Index; 3 In-Line, Axial Leads; Body Dia. 5mm; Leads 0.55 x 0.50 mm (max))
pins: 1 REF (in), 2 A, 3 K

## LM431AIM
designator U?
Adjustable Precision Zener Shunt Regulator, 8-pin Narrow SOIC; PartNumber: LM431AIM; Manufacturer: National Semiconductor; PackageTopMarking: NSZXTT*LM431*AIM; PowerWise: N; CompType: MiscPower; High-Reliability: Y; DatasheetVersion: Mar-2005; PackageVersion: revM, May-2009; PackageReference: M08A; PackageDescription: SOIC Narrow, 4.9 x 3.9 x 1.45mm, 8 Lead, 1.27mm Pitch; RoHS: N; PinCount: 8; Code_JEDEC: MS-012-AA; Code_IPC: SOIC127P600-8; ComponentLink1Description: Manufacturer URL; ComponentLink1URL: http://www.national.com/; ComponentLink2Description: LM431 Datasheet; ComponentLink2URL: http://www.national.com/ds/LM/LM431.pdf; ComponentLink3Description: LM431 Web Page; ComponentLink3URL: http://www.national.com/pf/LM/LM431.html; ComponentLink4Description: M08A Package Page; ComponentLink4URL: http://www.national.com/packaging/folders/m08a.html
footprint M08A_N (SOIC, 8-Leads, Body 4.9x3.9mm, Pitch 1.27mm, IPC Medium Density)
footprint M08A_L (SOIC, 8-Leads, Body 4.9x3.9mm, Pitch 1.27mm, IPC High Density)
footprint M08A_M (SOIC, 8-Leads, Body 4.9x3.9mm, Pitch 1.27mm, IPC Low Density)
pins: 1 K, 2 A, 3 A, 4 NC, 5 NC, 6 A, 7 A, 8 REF (in)

## LM431AIM3
designator U?
Adjustable Precision Zener Shunt Regulator, 3-pin SOT-23; PartNumber: LM431AIM3; Manufacturer: National Semiconductor; PackageTopMarking: N1E*XTT; PowerWise: N; CompType: MiscPower; High-Reliability: Y; DatasheetVersion: Mar-2005; PackageVersion: revB, Mar-2003; PackageReference: MF03A; PackageDescription: Molded SOT-23, .115 x .051 x .037in Body, 3 Lead, .075 in Pitch; RoHS: N; PinCount: 3; ComponentLink1Description: Manufacturer URL; ComponentLink1URL: http://www.national.com/; ComponentLink2Description: LM431 Datasheet; ComponentLink2URL: http://www.national.com/ds/LM/LM431.pdf; ComponentLink3Description: LM431 Web Page; ComponentLink3URL: http://www.national.com/pf/LM/LM431.html; ComponentLink4Description: MF03A Package Page; ComponentLink4URL: http://www.national.com/packaging/folders/mf03a.html
footprint MF03A_N (SOT23, 3-Leads, Body 2.9x1.3mm, Pitch 0.95mm, Lead Span 2.4mm, IPC Medium Density)
footprint MF03A_L (SOT23, 3-Leads, Body 2.9x1.3mm, Pitch 0.95mm, Lead Span 2.4mm, IPC High Density)
footprint MF03A_M (SOT23, 3-Leads, Body 2.9x1.3mm, Pitch 0.95mm, Lead Span 2.4mm, IPC Low Density)
pins: 1 K, 2 REF (in), 3 A

## LM431AIM3/NOPB
designator U?
Adjustable Precision Zener Shunt Regulator, 3-pin SOT-23, Pb-Free; PartNumber: LM431AIM3/NOPB; Manufacturer: National Semiconductor; PackageTopMarking: N1E*XTT; PowerWise: N; CompType: MiscPower; High-Reliability: Y; DatasheetVersion: Mar-2005; PackageVersion: revB, Mar-2003; PackageReference: MF03A; PackageDescription: Molded SOT-23, .115 x .051 x .037in Body, 3 Lead, .075 in Pitch; RoHS: Y; PinCount: 3; ComponentLink1Description: Manufacturer URL; ComponentLink1URL: http://www.national.com/; ComponentLink2Description: LM431 Datasheet; ComponentLink2URL: http://www.national.com/ds/LM/LM431.pdf; ComponentLink3Description: LM431 Web Page; ComponentLink3URL: http://www.national.com/pf/LM/LM431.html; ComponentLink4Description: MF03A Package Page; ComponentLink4URL: http://www.national.com/packaging/folders/mf03a.html
footprint MF03A_N (SOT23, 3-Leads, Body 2.9x1.3mm, Pitch 0.95mm, Lead Span 2.4mm, IPC Medium Density)
footprint MF03A_L (SOT23, 3-Leads, Body 2.9x1.3mm, Pitch 0.95mm, Lead Span 2.4mm, IPC High Density)
footprint MF03A_M (SOT23, 3-Leads, Body 2.9x1.3mm, Pitch 0.95mm, Lead Span 2.4mm, IPC Low Density)
pins: 1 K, 2 REF (in), 3 A

## LM431AIM3X
designator U?
Adjustable Precision Zener Shunt Regulator, 3-pin SOT-23; PartNumber: LM431AIM3X; Manufacturer: National Semiconductor; PackageTopMarking: N1E*XTT; PowerWise: N; CompType: MiscPower; High-Reliability: Y; DatasheetVersion: Mar-2005; PackageVersion: revB, Mar-2003; PackageReference: MF03A; PackageDescription: Molded SOT-23, .115 x .051 x .037in Body, 3 Lead, .075 in Pitch; RoHS: N; PinCount: 3; ComponentLink1Description: Manufacturer URL; ComponentLink1URL: http://www.national.com/; ComponentLink2Description: LM431 Datasheet; ComponentLink2URL: http://www.national.com/ds/LM/LM431.pdf; ComponentLink3Description: LM431 Web Page; ComponentLink3URL: http://www.national.com/pf/LM/LM431.html; ComponentLink4Description: MF03A Package Page; ComponentLink4URL: http://www.national.com/packaging/folders/mf03a.html
footprint MF03A_N (SOT23, 3-Leads, Body 2.9x1.3mm, Pitch 0.95mm, Lead Span 2.4mm, IPC Medium Density)
footprint MF03A_L (SOT23, 3-Leads, Body 2.9x1.3mm, Pitch 0.95mm, Lead Span 2.4mm, IPC High Density)
footprint MF03A_M (SOT23, 3-Leads, Body 2.9x1.3mm, Pitch 0.95mm, Lead Span 2.4mm, IPC Low Density)
pins: 1 K, 2 REF (in), 3 A